# Altium footprint library Synthiam-roundtrip2.PcbLib: 481 footprints (part 29 of 31)
Each footprint in its own frame and in the unit in brackets; x right, y up, seen from the top. Pads: shape width x height; smd on the part's side, far side on the other; paste and mask are expansions set on the pad; w line width, h text height; cw(c..) or ccw(c..) is an arc to the next point about the centre after c.
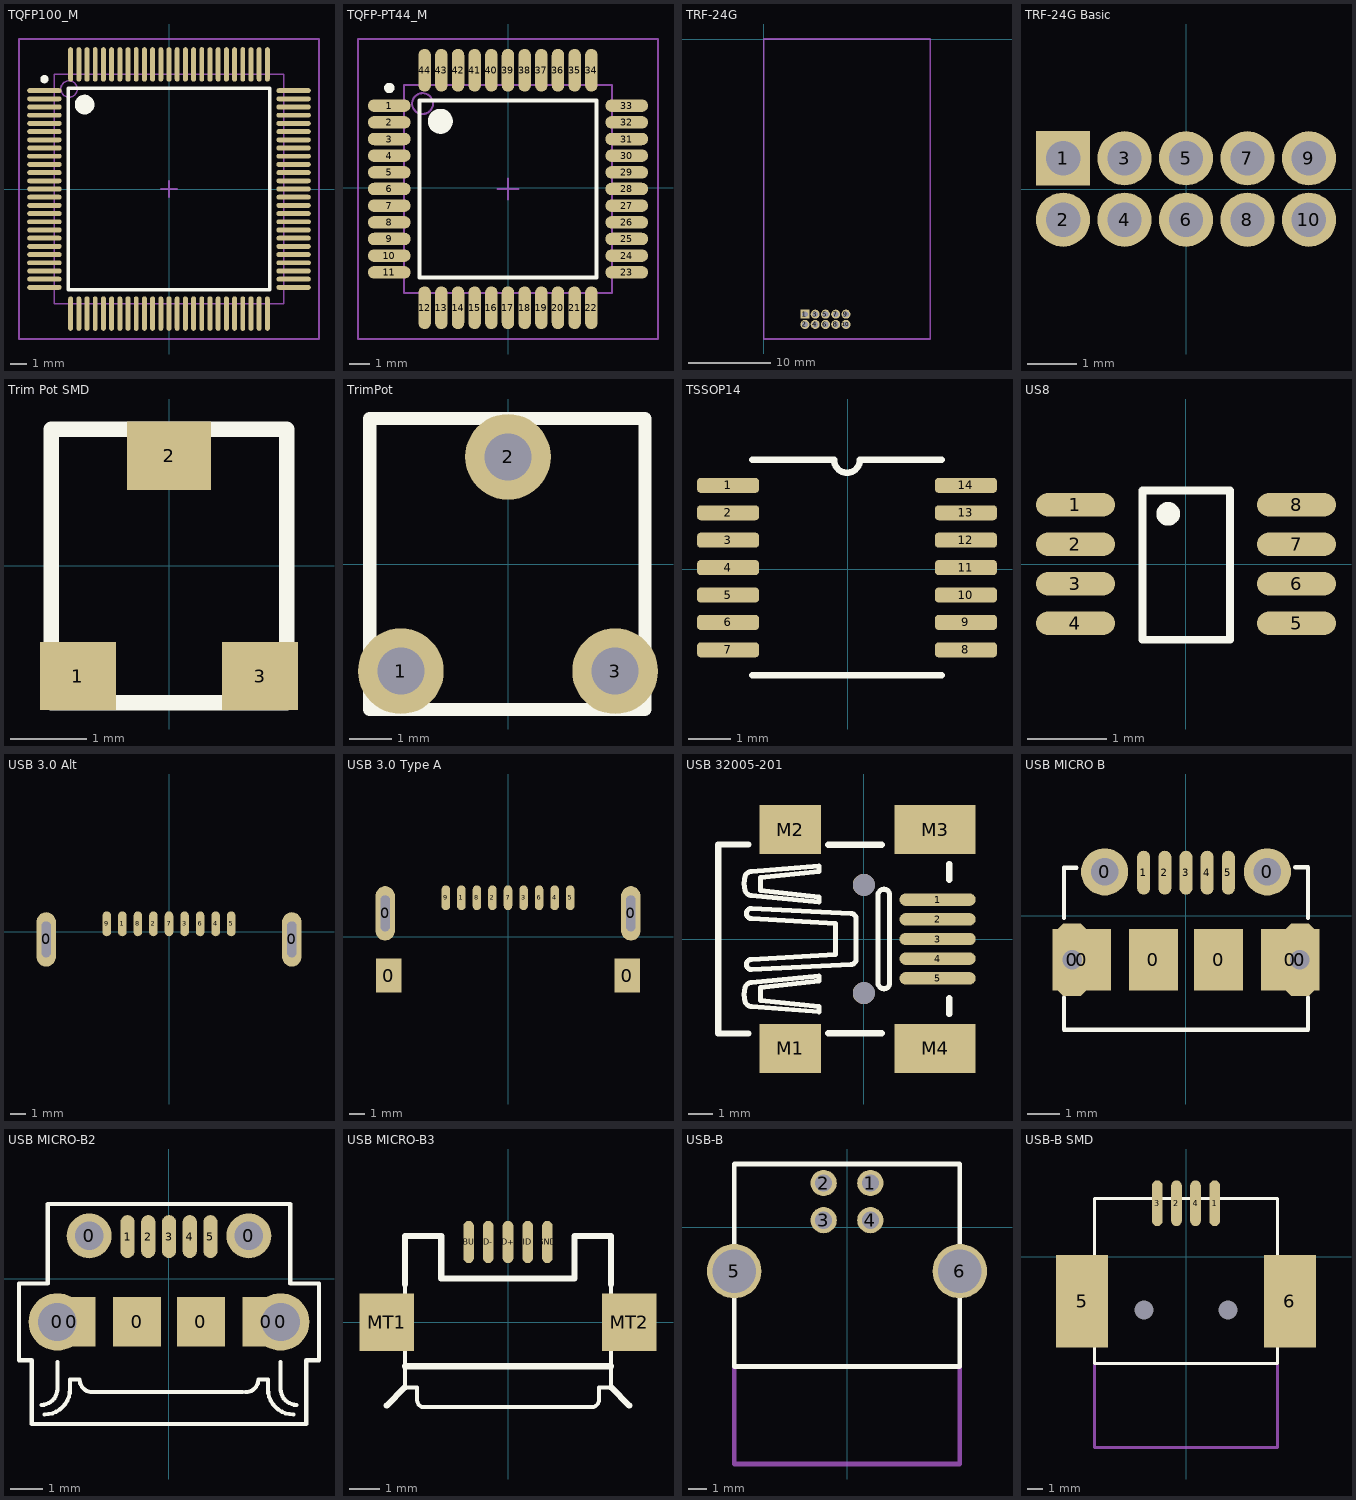
[diagram p28: the footprints below, top view; thin cyan lines are the x and y axes]

## TQFP100_M [mm] "Thin QFP, 100-Leads, Body 14x14mm, Pitch 0.5mm, IPC Low Density"
height 1.6
pads (100):
  oval 2.1x0.3 smd: 1(-7.6,6) 2(-7.6,5.5) 3(-7.6,5) 4(-7.6,4.5) 5(-7.6,4) 6(-7.6,3.5) 7(-7.6,3) 8(-7.6,2.5) 9(-7.6,2) 10(-7.6,1.5) 11(-7.6,1) 12(-7.6,0.5) 13(-7.6,0) 14(-7.6,-0.5) 15(-7.6,-1) 16(-7.6,-1.5) 17(-7.6,-2) 18(-7.6,-2.5) 19(-7.6,-3) 20(-7.6,-3.5) 21(-7.6,-4) 22(-7.6,-4.5) 23(-7.6,-5) 24(-7.6,-5.5) 25(-7.6,-6) 51(7.6,-6) 52(7.6,-5.5) 53(7.6,-5) 54(7.6,-4.5) 55(7.6,-4) 56(7.6,-3.5) 57(7.6,-3) 58(7.6,-2.5) 59(7.6,-2) 60(7.6,-1.5) 61(7.6,-1) 62(7.6,-0.5) 63(7.6,0) 64(7.6,0.5) 65(7.6,1) 66(7.6,1.5) 67(7.6,2) 68(7.6,2.5) 69(7.6,3) 70(7.6,3.5) 71(7.6,4) 72(7.6,4.5) 73(7.6,5) 74(7.6,5.5) 75(7.6,6)
  oval 0.3x2.1 smd: 26(-6,-7.6) 27(-5.5,-7.6) 28(-5,-7.6) 29(-4.5,-7.6) 30(-4,-7.6) 31(-3.5,-7.6) 32(-3,-7.6) 33(-2.5,-7.6) 34(-2,-7.6) 35(-1.5,-7.6) 36(-1,-7.6) 37(-0.5,-7.6) 38(0,-7.6) 39(0.5,-7.6) 40(1,-7.6) 41(1.5,-7.6) 42(2,-7.6) 43(2.5,-7.6) 44(3,-7.6) 45(3.5,-7.6) 46(4,-7.6) 47(4.5,-7.6) 48(5,-7.6) 49(5.5,-7.6) 50(6,-7.6) 76(6,7.6) 77(5.5,7.6) 78(5,7.6) 79(4.5,7.6) 80(4,7.6) 81(3.5,7.6) 82(3,7.6) 83(2.5,7.6) 84(2,7.6) 85(1.5,7.6) 86(1,7.6) 87(0.5,7.6) 88(0,7.6) 89(-0.5,7.6) 90(-1,7.6) 91(-1.5,7.6) 92(-2,7.6) 93(-2.5,7.6) 94(-3,7.6) 95(-3.5,7.6) 96(-4,7.6) 97(-4.5,7.6) 98(-5,7.6) 99(-5.5,7.6) 100(-6,7.6)
Top Overlay:
  circle w0.25: c-7.6,6.7 r0.125
  circle w0.6: c-5.15,5.15 r0.3
  lines w0.2: -6.15,-6.15 -6.15,6.15 6.15,6.15 6.15,-6.15 -6.15,-6.15
Mechanical 13:
  circle w0.1: c-6.1,6.1 r0.5
  lines w0.1: -7,-7 -7,7 7,7 7,-7 -7,-7
Mechanical 15:
  lines w0.1: -0.5,0 0.5,0 ; 0,-0.5 0,0.5 ; -9.15,-9.15 -9.15,9.15 9.15,9.15 9.15,-9.15 -9.15,-9.15
3D body: height 1.6, standoff 0, extent -7,-7 7,7

## TQFP-PT44_M [mm]
pads (44):
  oval 2.05x0.6 smd: 1(-5.716,3.937) 2(-5.716,3.137) 3(-5.716,2.337) 4(-5.716,1.537) 5(-5.716,0.737) 6(-5.716,-0.063) 7(-5.716,-0.863) 8(-5.716,-1.663) 9(-5.716,-2.463) 10(-5.716,-3.263) 11(-5.716,-4.063) 23(5.684,-4.063) 24(5.684,-3.263) 25(5.684,-2.463) 26(5.684,-1.663) 27(5.684,-0.863) 28(5.684,-0.063) 29(5.684,0.737) 30(5.684,1.537) 31(5.684,2.337) 32(5.684,3.137) 33(5.684,3.937)
  oval 0.6x2.05 smd: 12(-4.016,-5.763) 13(-3.216,-5.763) 14(-2.416,-5.763) 15(-1.616,-5.763) 16(-0.816,-5.763) 17(-0.016,-5.763) 18(0.784,-5.763) 19(1.584,-5.763) 20(2.384,-5.763) 21(3.184,-5.763) 22(3.984,-5.763) 34(3.984,5.637) 35(3.184,5.637) 36(2.384,5.637) 37(1.584,5.637) 38(0.784,5.637) 39(-0.016,5.637) 40(-0.816,5.637) 41(-1.616,5.637) 42(-2.416,5.637) 43(-3.216,5.637) 44(-4.016,5.637)
Top Overlay:
  circle w0.25: c-5.716,4.787 r0.125
  circle w0.6: c-3.266,3.187 r0.3
  lines w0.2: -4.266,-4.313 -4.266,4.187 4.234,4.187 4.234,-4.313 -4.266,-4.313
Mechanical 13:
  circle w0.1: c-4.116,4.037 r0.5
  lines w0.1: -5.016,-5.063 -5.016,4.937 4.984,4.937 4.984,-5.063 -5.016,-5.063
Mechanical 15:
  lines w0.1: -0.516,-0.063 0.484,-0.063 ; -0.016,-0.563 -0.016,0.437 ; -7.216,-7.263 -7.216,7.137 7.184,7.137 7.184,-7.263 -7.216,-7.263
3D body: height 1.2, standoff 0, extent -5.016,-5.063 4.984,4.937

## TRF-24G [mm]
pads (10):
  rect 1.1x1.1 hole 0.7: 1(5.033,-33.548)
  round 1.1 hole 0.7: 2(5.033,-34.798) 3(6.283,-33.548) 4(6.283,-34.798) 5(7.533,-33.548) 6(7.533,-34.798) 7(8.783,-33.548) 8(8.783,-34.798) 9(10.033,-33.548) 10(10.033,-34.798)
Mechanical 1:
  lines w0.203: 0,-36.576 0,0 20.32,0 20.32,-36.576 0,-36.576

## TRF-24G Basic [mm]
pads (10):
  rect 1.1x1.1 hole 0.7: 1(-2.5,0.625)
  round 1.1 hole 0.7: 2(-2.5,-0.625) 3(-1.25,0.625) 4(-1.25,-0.625) 5(0,0.625) 6(0,-0.625) 7(1.25,0.625) 8(1.25,-0.625) 9(2.5,0.625) 10(2.5,-0.625)

## Trim Pot SMD [mm]
pads (3):
  rect 1x0.9 smd: 1(-1.2,-1.45) 3(1.2,-1.45)
  rect 1.1x0.9 smd: 2(0,1.45)
Top Overlay:
  lines w0.203: -1.55,-1.8 1.55,-1.8 1.55,1.8 -1.55,1.8 -1.55,-1.8

## TrimPot [mm]
pads (3):
  round 2 hole 1.1: 1(-2.5,-2.5) 2(0,2.5) 3(2.5,-2.5)
Top Overlay:
  lines w0.305: -3.226,-3.4 -3.226,3.4 ; -3.2,-3.4 3.2,-3.4 3.2,3.4 -3.2,3.4

## TSSOP14 [mil] "PIC16F1503"
pads (14):
  rrect50% 58x14 smd mask+4: 1(-111.87,78.35) 2(-111.87,52.76) 3(-111.87,27.17) 4(-111.87,1.57) 5(-111.87,-24.02) 6(-111.87,-49.61) 7(-111.87,-75.2) 8(110.13,-75.2) 9(110.13,-49.61) 10(110.13,-24.02) 11(110.13,1.57) 12(110.13,27.17) 13(110.13,52.76) 14(110.13,78.35)
Top Overlay:
  lines w6: -89.37,-98.93 87.63,-98.93 ; -89.37,102.36 -14.73,102.36 ; -12.87,102.07 ccw(c-0.87,102.07) 11.13,102.07 ; 11.13,102.36 87.63,102.36
Mechanical 1:
  lines w0: -12.87,102.07 ccw(c-0.87,102.07) 11.13,102.07

## US8 [mm]
pads (8):
  oval 1x0.3 smd: 1(-1.4,0.75) 2(-1.4,0.25) 3(-1.4,-0.25) 4(-1.4,-0.75) 5(1.4,-0.75) 6(1.4,-0.25) 7(1.4,0.25) 8(1.4,0.75)
Top Overlay:
  circle w0.2: c-0.225,0.635 r0.05
  lines w0.1: -0.55,-0.96 0.555,-0.96 0.555,0.93 -0.55,0.93 -0.55,-0.96

## USB 3.0 Alt [mm]
pads (11):
  oval 1.25x3.5 hole 0.6 slot 2.3 at 90 deg: 0(-7.9,-0.5) 0(7.9,-0.5)
  oval 0.55x1.6 smd: 1(-3,0.5) 2(-1,0.5) 3(1,0.5) 4(3,0.5) 5(4,0.5) 6(2,0.5) 7(0,0.5) 8(-2,0.5) 9(-4,0.5)

## USB 3.0 Type A [mm]
pads (13):
  oval 1.25x3.5 hole 0.6 slot 2.3 at 90 deg: 0(-7.9,1.5) 0(7.9,1.5)
  rect 1.64x2.2 smd: 0(-7.68,-2.5) 0(7.68,-2.5)
  oval 0.55x1.6 smd: 1(-3,2.5) 2(-1,2.5) 3(1,2.5) 4(3,2.5) 5(4,2.5) 6(2,2.5) 7(0,2.5) 8(-2,2.5) 9(-4,2.5)

## USB 32005-201 [mm] "USB mini-B connector"
height 3.81
pads (11):
  oval 3.1x0.5 smd: 1(3,1.6) 2(3,0.8) 3(3,0) 4(3,-0.8) 5(3,-1.6)
  rect 2.5x2 smd: M1(-3,-4.45) M2(-3,4.45)
  rect 3.3x2 smd: M3(2.9,4.45) M4(2.9,-4.45)
  round 0.9 on Top hole 0.9: ""(0,-2.2) ""(0,2.2)
Top Overlay:
  lines w0.203: -0.519,1.038 cw(c-0.531,0.819) -0.312,0.831 ; -0.519,1.038 -4.568,1.246 ccw(c-4.569,1.038) -4.776,1.038 -4.776,1.038 ccw(c-4.569,1.038) -4.569,0.83 -1.142,0.623 -1.142,-0.623 -4.569,-0.83 ccw(c-4.569,-1.038) -4.776,-1.038 ccw(c-4.569,-1.038) -4.569,-1.246 -0.519,-1.038 ccw(c-0.531,-0.818) -0.312,-0.83 -0.312,0.831 ; -4.828,-2.543 ccw(c-4.546,-2.457) -4.569,-2.751 -1.817,-2.959 -1.817,-2.751 -4.205,-2.492 -4.205,-1.973 -1.817,-1.713 -1.817,-1.505 -4.569,-1.765 ccw(c-4.546,-2.059) -4.828,-1.973 ccw(c-3.897,-2.258) -4.828,-2.544 ; -4.828,1.973 cw(c-3.897,2.258) -4.828,2.544 cw(c-4.546,2.457) -4.569,2.751 -1.817,2.959 -1.817,2.751 -4.205,2.492 -4.205,1.973 -1.817,1.713 -1.817,1.505 -4.569,1.765 cw(c-4.546,2.059) -4.828,1.973 ; 0.571,-1.765 ccw(c0.831,-1.765) 0.83,-2.024 ccw(c0.831,-1.817) 1.038,-1.817 1.038,1.817 ccw(c0.831,1.817) 0.83,2.025 ccw(c0.83,1.765) 0.571,1.765 0.571,-1.765
  lines w0.254: -4.699,-3.841 -5.918,-3.841 -5.918,0 -5.918,3.841 -4.699,3.841 ; -1.448,-3.835 0.726,-3.835 ; -1.448,3.835 0.726,3.835 ; 3.478,-3.048 3.478,-2.413 ; 3.478,2.413 3.478,3.048
3D body: height 3.95, standoff -1, extent -5.9,-5.35 3.3,5.35

## USB MICRO B [mm]
pads (13):
  oct 1.108x2.216 hole 0.6: 0(-3.5,-1.35) 0(3.5,-1.35)
  rect 1.8x1.9 smd: 0(-3.2,-1.35) 0(3.2,-1.35)
  round 1.45 hole 0.85: 0(-2.5,1.35) 0(2.5,1.35)
  rect 1.5x1.9 smd: 0(-1,-1.35) 0(1,-1.35)
  oval 0.4x1.35 smd: 1(-1.3,1.325) 2(-0.65,1.325) 3(0,1.325) 4(0.65,1.325) 5(1.3,1.325)
Top Overlay:
  lines w0.127: -3.75,-2.5 -3.75,-3.5 3.75,-3.5 3.75,-2.5 ; -3.75,-0.067 -3.75,1.48 ; -3.742,1.478 -3.365,1.478 ; 3.358,1.493 3.75,1.493 3.75,-0.067
Mechanical 1:
  lines w0.008: -3.8,-1.7 ccw(c-3.5,-1.7) -3.2,-1.7 -3.2,-1 ccw(c-3.5,-1) -3.8,-1 -3.8,-1.7 ; 3.2,-1.7 ccw(c3.5,-1.7) 3.8,-1.7 3.8,-1 ccw(c3.5,-1) 3.2,-1 3.2,-1.7

## USB MICRO-B2 [mm]
pads (13):
  round 1.8 hole 1.2: 0(-3.5,-1.35) 0(3.5,-1.35)
  rect 1.5x1.55 smd: 0(-3.05,-1.35) 0(-1,-1.35) 0(1,-1.35) 0(3.05,-1.35)
  round 1.408 hole 0.9: 0(-2.5,1.35) 0(2.5,1.35)
  oval 0.45x1.35 smd: 1(-1.3,1.325) 2(-0.65,1.325) 3(0,1.325) 4(0.65,1.325) 5(1.3,1.325)
Top Overlay:
  lines w0.127: -4,-3.95 ccw(c-4,-3.45) -3.5,-3.45 ; -3.9,-4.25 ccw(c-3.9,-3.45) -3.1,-3.45 -3.1,-3.15 -2.8,-3.15 ccw(c-2.4,-3.15) -2.4,-3.55 2.3,-3.55 ; -3.5,-3.5 -3.5,-3.45 ; -3.5,-2.6 -3.5,-3.45 ; -2.5,2.35 3.8,2.35 3.8,-0.15 4.7,-0.15 4.7,-2.55 4.3,-2.55 4.3,-4.55 -4.3,-4.55 -4.3,-2.55 -4.7,-2.55 -4.7,-0.15 -3.8,-0.15 -3.8,2.35 -1.8,2.35 ; 2.4,-3.55 ccw(c2.4,-3.15) 2.8,-3.15 3.1,-3.15 3.1,-3.45 ccw(c3.9,-3.45) 3.9,-4.25 ; 4,-3.95 cw(c4,-3.45) 3.5,-3.45 ; 3.5,-3.45 3.5,-3.5 3.5,-2.6 3.5,-3.45

## USB MICRO-B3 [mm]
pads (7):
  oval 0.35x1.4 smd: D+(0,2.65) D-(-0.65,2.65) GND(1.3,2.65) ID(0.65,2.65) VBUS(-1.3,2.65)
  rect 1.8x1.9 smd: MT1(-4,0) MT2(4,0)
Top Overlay:
  lines w0.127: -3.4,-1.45 -3.4,-2.15 -3,-2.15 -3,-2.55 ccw(c-2.763,-2.565) -2.8,-2.8 2.75,-2.8 ccw(c2.765,-2.563) 3,-2.6 3,-2.15 3.4,-2.15 3.4,-1.45 ; -3.4,-1.45 -3.4,2.85 -2.2,2.85 -2.2,1.45 2.2,1.45 2.2,2.85 3.4,2.85 3.4,-1.45 ; -3.4,-1.45 3.4,-1.45
  lines w0.203: -4,-2.75 -3.4,-2.15 ; -3.4,-1.45 3.4,-1.45 ; -3.4,1.25 -3.4,2.85 -2.2,2.85 -2.2,1.45 2.2,1.45 2.2,2.85 3.4,2.85 3.4,1.25 ; 3.4,-2.15 4,-2.75

## USB-B [mil]
pads (6):
  round 55 hole 36: 1(49,92.5) 2(-49,92.5) 3(-49,14.5) 4(49,14.5)
  round 114.17 hole 91: 5(-237,-92.5) 6(237,-92.5)
Top Overlay:
  lines w10: -237,-292.5 -237,132.5 237,132.5 237,-292.5 -237,-292.5
Mechanical 1:
  lines w10: -237,-292.5 -237,-497.5 237,-497.5 237,-292.5

## USB-B SMD [mm]
pads (8):
  round 0 hole 1.25: 0(-2.75,-3.5) 0(2.75,-3.5)
  oval 0.7x3 smd: 1(1.875,3.5) 2(-0.625,3.5) 3(-1.875,3.5) 4(0.625,3.5)
  rect 3.4x6.04 smd: 5(-6.8,-2.92) 6(6.8,-2.92)
Top Overlay:
  lines w0.203: -6,-7 -6,3.8 6,3.8 6,-7 -6,-7
Mechanical 1:
  lines w0.203: -6,-7 -6,-12.5 6,-12.5 6,-7